# Altium footprint library PcbLib1.PcbLib: 19 footprints (part 2 of 2)
Each footprint in its own frame and in the unit in brackets; x right, y up, seen from the top. Pads: shape width x height; smd on the part's side, far side on the other; paste and mask are expansions set on the pad; w line width, h text height; cw(c..) or ccw(c..) is an arc to the next point about the centre after c.
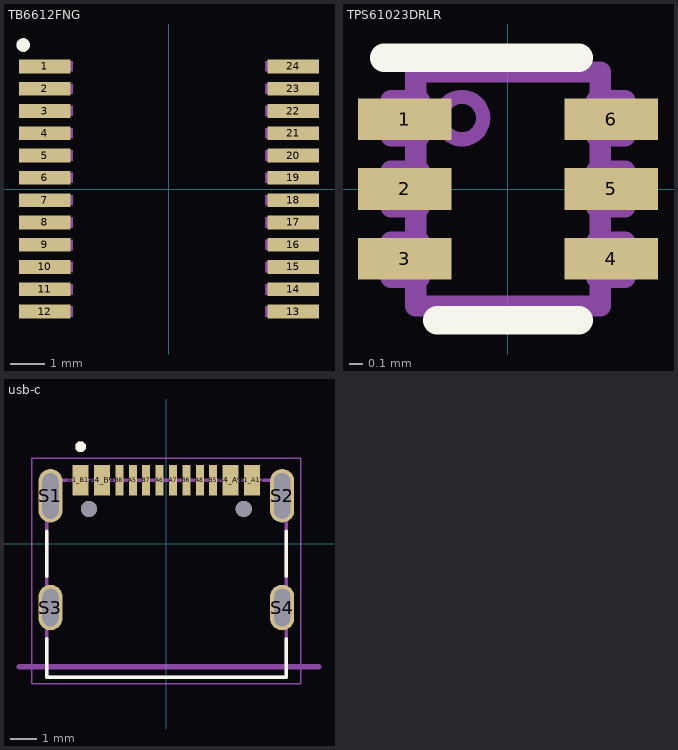
[diagram p1: the footprints below, top view; thin cyan lines are the x and y axes]

## TB6612FNG [mm]
pads (24):
  rect 1.5x0.4 smd: 1(-3.625,3.575) 2(-3.625,2.925) 3(-3.625,2.275) 4(-3.625,1.625) 5(-3.625,0.975) 6(-3.625,0.325) 7(-3.625,-0.325) 8(-3.625,-0.975) 9(-3.625,-1.625) 10(-3.625,-2.275) 11(-3.625,-2.925) 12(-3.625,-3.575) 13(3.625,-3.575) 14(3.625,-2.925) 15(3.625,-2.275) 16(3.625,-1.625) 17(3.625,-0.975) 18(3.625,-0.325) 19(3.625,0.325) 20(3.625,0.975) 21(3.625,1.625) 22(3.625,2.275) 23(3.625,2.925) 24(3.625,3.575)
Top Overlay:
  circle w0.2: c-4.25,4.2 r0.1
Mechanical 13:
  region: 3.8,-2.428 2.804,-2.428 2.804,-2.125 3.8,-2.125
  region: 3.8,1.478 2.805,1.478 2.805,1.775 3.8,1.775
  region: 3.8,-0.476 2.806,-0.476 2.806,-0.175 3.8,-0.175
  region: 3.8,-1.128 2.808,-1.128 2.808,-0.825 3.8,-0.825
  region: 3.8,-1.777 2.803,-1.777 2.803,-1.475 3.8,-1.475
  region: 3.8,-3.084 2.808,-3.084 2.808,-2.775 3.8,-2.775
  region: 3.8,-3.731 2.805,-3.731 2.805,-3.425 3.8,-3.425
  region: 3.8,3.431 2.805,3.431 2.805,3.725 3.8,3.725
  region: 3.8,2.781 2.806,2.781 2.806,3.075 3.8,3.075
  region: 3.8,2.126 2.802,2.126 2.802,2.425 3.8,2.425
  region: 3.8,0.827 2.807,0.827 2.807,1.125 3.8,1.125
  region: 3.8,0.175 2.807,0.175 2.807,0.475 3.8,0.475
  region: -2.8,-3.733 -3.808,-3.733 -3.808,-3.425 -2.8,-3.425
  region: -2.8,-3.081 -3.808,-3.081 -3.808,-2.775 -2.8,-2.775
  region: -2.8,-2.432 -3.81,-2.432 -3.81,-2.125 -2.8,-2.125
  region: -2.8,-1.78 -3.81,-1.78 -3.81,-1.475 -2.8,-1.475
  region: -2.8,-1.127 -3.808,-1.127 -3.808,-0.825 -2.8,-0.825
  region: -2.8,-0.476 -3.812,-0.476 -3.812,-0.175 -2.8,-0.175
  region: -2.8,0.175 -3.807,0.175 -3.807,0.475 -2.8,0.475
  region: -2.8,0.827 -3.808,0.827 -3.808,1.125 -2.8,1.125
  region: -2.8,1.478 -3.807,1.478 -3.807,1.775 -2.8,1.775
  region: -2.8,2.132 -3.812,2.132 -3.812,2.425 -2.8,2.425
  region: -2.8,2.78 -3.807,2.78 -3.807,3.075 -2.8,3.075
  region: -2.8,3.435 -3.811,3.435 -3.811,3.725 -2.8,3.725
3D body "step_temp.STEP": height 1.6, standoff 0, extent -3.8,-4.15 3.8,4.15

## TPS61023DRLR [mm]
pads (6):
  rect 0.67x0.3 smd: 1(-0.74,0.5) 2(-0.74,0) 3(-0.74,-0.5) 4(0.74,-0.5) 5(0.74,0) 6(0.74,0.5)
Top Overlay:
  lines w0.203: -0.889,0.94 0.508,0.94 ; -0.508,-0.94 0.508,-0.94
Mechanical 13:
  lines w0.102: -0.483,0.508 cw(c-0.33,0.508) -0.178,0.508 cw(c-0.33,0.508) -0.483,0.508
  lines w0.152: -0.66,-0.635 -0.66,-0.838 0.66,-0.838 0.66,-0.635 ; -0.66,-0.381 -0.66,-0.127 ; -0.66,0.381 -0.66,0.127 ; -0.66,0.635 -0.66,0.838 0.66,0.838 0.66,0.635 ; 0.66,0.381 0.66,-0.381 ; -0.66,0.127 -0.635,0.127 -0.635,-0.127 -0.838,-0.127 -0.838,0.127 -0.66,0.127 ; 0.66,-0.635 0.838,-0.635 0.838,-0.381 0.66,-0.381 ; 0.66,-0.635 0.635,-0.635 0.635,-0.381 0.66,-0.381 ; 0.66,0.635 0.838,0.635 0.838,0.381 0.635,0.381 0.635,0.635 0.66,0.635 ; -0.838,-0.635 -0.635,-0.635 -0.635,-0.381 -0.838,-0.381 -0.838,-0.635 ; -0.838,0.381 -0.635,0.381 -0.635,0.635 -0.838,0.635 -0.838,0.381 ; 0.635,-0.127 0.635,0.127 0.838,0.127 0.838,-0.127 0.635,-0.127
  text ".Designator" at -0.66,0.711 h1.27
3D body "step_temp.STEP": height 0.6, standoff 0, extent -0.8,-0.8 0.8,0.8

## usb-c [mm]
pads (18):
  rect 0.6x1.14 smd mask+0.05: A1_B12(-3.2,2.375) A4_B9(-2.4,2.375) B1_A12(3.2,2.375) B4_A9(2.4,2.375)
  rect 0.3x1.14 smd mask+0.05: A5(-1.25,2.375) A6(-0.25,2.375) A7(0.25,2.375) A8(1.25,2.375) B5(1.75,2.375) B6(0.75,2.375) B7(-0.75,2.375) B8(-1.75,2.375)
  oval 0.9x2 hole 0.6 slot 1.7 at 90 deg: S1(-4.325,1.795) S2(4.325,1.795)
  oval 0.9x1.7 hole 0.6 slot 1.4 at 90 deg: S3(-4.325,-2.375) S4(4.325,-2.375)
  round 0.6 hole 0.6 unplated: ""(-2.89,1.305) ""(2.89,1.305)
Top Overlay:
  circle w0.2: c-3.2,3.625 r0.1
  lines w0.127: -4.47,-3.545 -4.47,-4.975 4.47,-4.975 4.47,-3.545 ; -4.47,-1.205 -4.47,0.475 ; 4.47,-1.205 4.47,0.475
Mechanical 13:
  circle w0.2: c-3.2,3.625 r0.1
  lines w0.127: -4.47,-4.975 4.47,-4.975 4.47,2.375 -4.47,2.375 -4.47,-4.975
  lines w0.2: -5.5,-4.585 5.7,-4.585
Mechanical 15:
  lines w0.05: -5.025,-5.225 -5.025,3.195 5.025,3.195 5.025,-5.225 -5.025,-5.225
3D body "step_temp.STEP": height 3.31, standoff -0.99, extent -4.47,-4.975 4.47,2.93